# Altium schematic symbol library MAX3243xWR.SchLib: 1 symbol
Pins are listed as number, name and electrical type; pins without a type are passive.

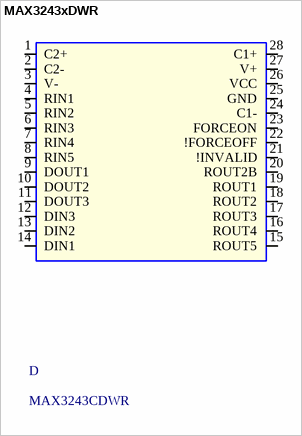
[diagram p0: symbol MAX3243xDWR]

## MAX3243xDWR
designator D, comment MAX3243CDWR
Value: MAX3243CDWR
footprint ZSO28L
pins: 1 C2+ (power), 2 C2- (power), 3 V- (power), 4 RIN1 (power), 5 RIN2 (power), 6 RIN3 (power), 7 RIN4 (power), 8 RIN5 (power), 9 DOUT1 (power), 10 DOUT2 (power), 11 DOUT3 (power), 12 DIN3 (power), 13 DIN2 (power), 14 DIN1 (power), 15 ROUT5 (power), 16 ROUT4 (power), 17 ROUT3 (power), 18 ROUT2 (power), 19 ROUT1 (power), 20 ROUT2B (power), 21 !INVALID (power), 22 !FORCEOFF (power), 23 FORCEON (power), 24 C1- (power), 25 GND (power), 26 VCC (power), 27 V+ (power), 28 C1+ (power)